# Altium footprint library CAP AL TH D16 L7.5 H26.5.PCBLIB: 1 footprints
Each footprint in its own frame and in the unit in brackets; x right, y up, seen from the top. Pads: shape width x height; smd on the part's side, far side on the other; paste and mask are expansions set on the pad; w line width, h text height; cw(c..) or ccw(c..) is an arc to the next point about the centre after c.
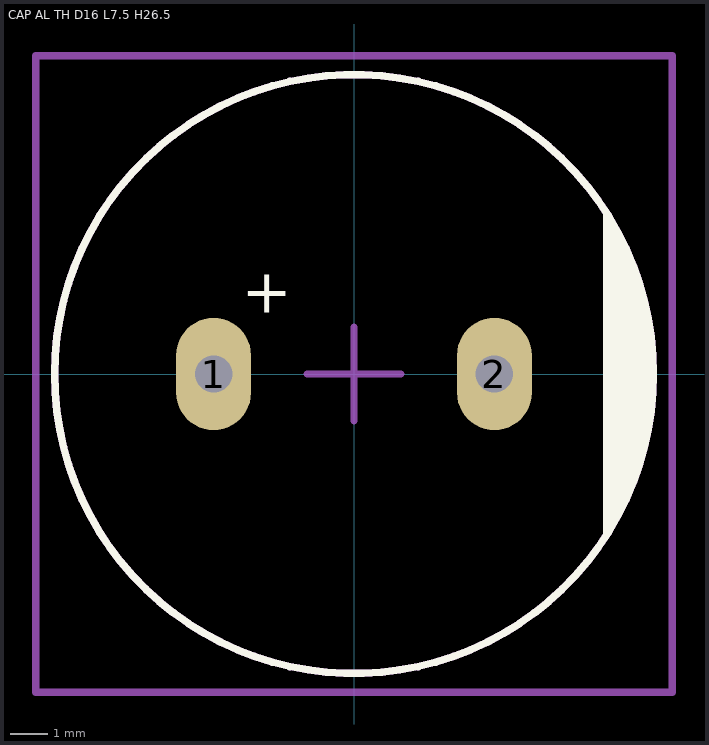
[diagram p0: the footprint, top view; thin cyan lines are the x and y axes]

## CAP AL TH D16 L7.5 H26.5 [mm] "16MM Diameter, 7.5MM Lead Spacing Aluminium Capacitor"
height 26.5
pads (2):
  oval 2x3 hole 1: 1(-3.75,0) 2(3.75,0)
Top Overlay:
  circle w0.2: c0,0 r8
  region: 6.75,-4.25 6.75,4.25 7.5,2.75 8,1 8,0 7.75,-1.75 7.5,-2.75
  lines w0.2: 6.75,-4.25 6.75,4.25
  text "+" at -3,1.25 h2
Mechanical 13:
  circle w0.2: c0,0 r8
  lines w0.2: 6.75,-4.25 6.75,4.25
Mechanical 15:
  lines w0.2: -1.25,0 1.25,0 ; 0,-1.25 0,1.25 ; -8.5,-8.5 8.5,-8.5 8.5,8.5 -8.5,8.5 -8.5,-8.5
3D body "CAP ALTH D-16MM L-7.5MM H-26.5MM .STEP": height 26.7, standoff -3, extent -8,-7.994 8,7.995